# EAGLE library part JOYSTICK (library hal-config)
Joystick HAL Joystick Controller
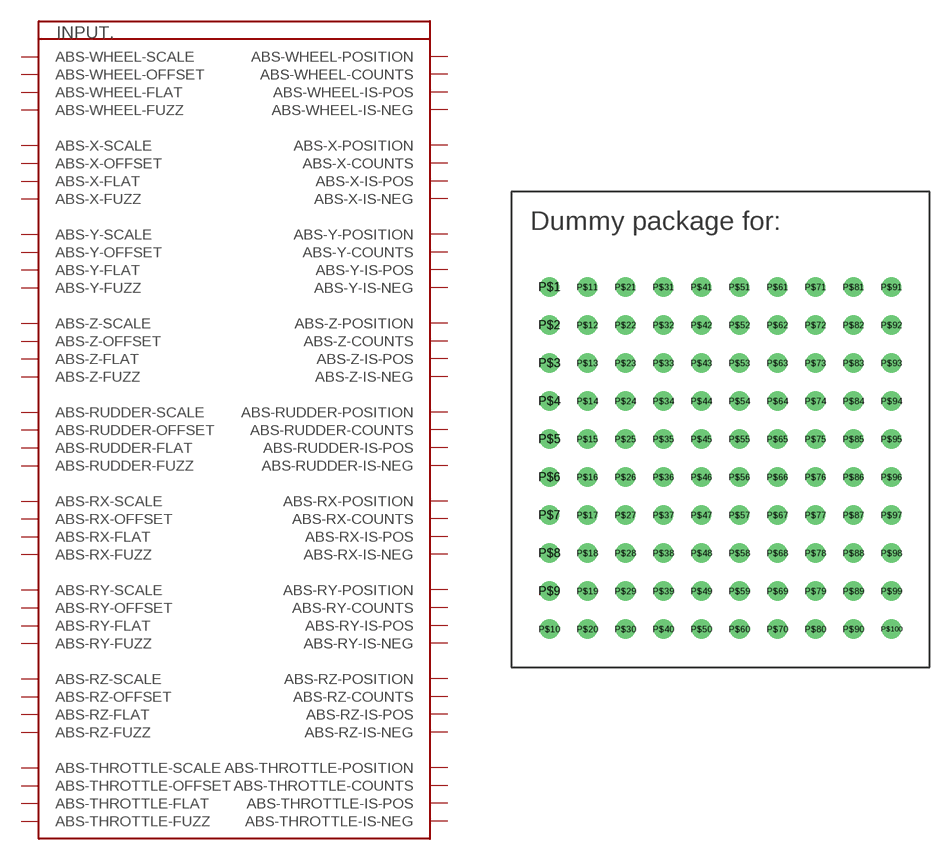
[diagram p26: symbol with the pads of DUMMY; footprint DUMMY]

Designator prefix INPUT.

## JOYSTICK  [DUMMY]
P$1  ABS-RUDDER-COUNTS  out
P$2  ABS-RUDDER-FLAT  in
P$3  ABS-RUDDER-FUZZ  in
P$4  ABS-RUDDER-IS-NEG  out
P$5  ABS-RUDDER-IS-POS  out
P$6  ABS-RUDDER-OFFSET  in
P$7  ABS-RUDDER-POSITION  out
P$8  ABS-RUDDER-SCALE  in
P$9  ABS-RX-COUNTS  out
P$10  ABS-RX-FLAT  in
P$11  ABS-RX-FUZZ  in
P$12  ABS-RX-IS-NEG  out
P$13  ABS-RX-IS-POS  out
P$14  ABS-RX-OFFSET  in
P$15  ABS-RX-POSITION  out
P$16  ABS-RX-SCALE  in
P$17  ABS-RY-COUNTS  out
P$18  ABS-RY-FLAT  in
P$19  ABS-RY-FUZZ  in
P$20  ABS-RY-IS-NEG  out
P$21  ABS-RY-IS-POS  out
P$22  ABS-RY-OFFSET  in
P$23  ABS-RY-POSITION  out
P$24  ABS-RY-SCALE  in
P$25  ABS-RZ-COUNTS  out
P$26  ABS-RZ-FLAT  in
P$27  ABS-RZ-FUZZ  in
P$28  ABS-RZ-IS-NEG  out
P$29  ABS-RZ-IS-POS  out
P$30  ABS-RZ-OFFSET  in
P$31  ABS-RZ-POSITION  out
P$32  ABS-RZ-SCALE  in
P$33  ABS-THROTTLE-COUNTS  out
P$34  ABS-THROTTLE-FLAT  in
P$35  ABS-THROTTLE-FUZZ  in
P$36  ABS-THROTTLE-IS-NEG  out
P$37  ABS-THROTTLE-IS-POS  out
P$38  ABS-THROTTLE-OFFSET  in
P$39  ABS-THROTTLE-POSITION  out
P$40  ABS-THROTTLE-SCALE  in
P$41  ABS-WHEEL-COUNTS  out
P$42  ABS-WHEEL-FLAT  in
P$43  ABS-WHEEL-FUZZ  in
P$44  ABS-WHEEL-IS-NEG  out
P$45  ABS-WHEEL-IS-POS  out
P$46  ABS-WHEEL-OFFSET  in
P$47  ABS-WHEEL-POSITION  out
P$48  ABS-WHEEL-SCALE  in
P$49  ABS-X-COUNTS  out
P$50  ABS-X-FLAT  in
P$51  ABS-X-FUZZ  in
P$52  ABS-X-IS-NEG  out
P$53  ABS-X-IS-POS  out
P$54  ABS-X-OFFSET  in
P$55  ABS-X-POSITION  out
P$56  ABS-X-SCALE  in
P$57  ABS-Y-COUNTS  out
P$58  ABS-Y-FLAT  in
P$59  ABS-Y-FUZZ  in
P$60  ABS-Y-IS-NEG  out
P$61  ABS-Y-IS-POS  out
P$62  ABS-Y-OFFSET  in
P$63  ABS-Y-POSITION  out
P$64  ABS-Y-SCALE  in
P$65  ABS-Z-COUNTS  out
P$66  ABS-Z-FLAT  in
P$67  ABS-Z-FUZZ  in
P$68  ABS-Z-IS-NEG  out
P$69  ABS-Z-IS-POS  out
P$70  ABS-Z-OFFSET  in
P$71  ABS-Z-POSITION  out
P$72  ABS-Z-SCALE  in

## Footprint DUMMY (pad centres in mm)
drill 0.8: P$1 0,-1.27; P$2 0,-3.81; P$3 0,-6.35; P$4 0,-8.89; P$5 0,-11.43; P$6 0,-13.97; P$7 0,-16.51; P$8 0,-19.05; P$9 0,-21.59; P$10 0,-24.13; P$11 2.54,-1.27; P$12 2.54,-3.81; P$13 2.54,-6.35; P$14 2.54,-8.89; P$15 2.54,-11.43; P$16 2.54,-13.97; P$17 2.54,-16.51; P$18 2.54,-19.05; P$19 2.54,-21.59; P$20 2.54,-24.13; P$21 5.08,-1.27; P$22 5.08,-3.81; P$23 5.08,-6.35; P$24 5.08,-8.89; P$25 5.08,-11.43; P$26 5.08,-13.97; P$27 5.08,-16.51; P$28 5.08,-19.05; P$29 5.08,-21.59; P$30 5.08,-24.13; P$31 7.62,-1.27; P$32 7.62,-3.81; P$33 7.62,-6.35; P$34 7.62,-8.89; P$35 7.62,-11.43; P$36 7.62,-13.97; P$37 7.62,-16.51; P$38 7.62,-19.05; P$39 7.62,-21.59; P$40 7.62,-24.13; P$41 10.16,-1.27; P$42 10.16,-3.81; P$43 10.16,-6.35; P$44 10.16,-8.89; P$45 10.16,-11.43; P$46 10.16,-13.97; P$47 10.16,-16.51; P$48 10.16,-19.05; P$49 10.16,-21.59; P$50 10.16,-24.13; P$51 12.7,-1.27; P$52 12.7,-3.81; P$53 12.7,-6.35; P$54 12.7,-8.89; P$55 12.7,-11.43; P$56 12.7,-13.97; P$57 12.7,-16.51; P$58 12.7,-19.05; P$59 12.7,-21.59; P$60 12.7,-24.13; P$61 15.24,-1.27; P$62 15.24,-3.81; P$63 15.24,-6.35; P$64 15.24,-8.89; P$65 15.24,-11.43; P$66 15.24,-13.97; P$67 15.24,-16.51; P$68 15.24,-19.05; P$69 15.24,-21.59; P$70 15.24,-24.13; P$71 17.78,-1.27; P$72 17.78,-3.81; P$73 17.78,-6.35; P$74 17.78,-8.89; P$75 17.78,-11.43; P$76 17.78,-13.97; P$77 17.78,-16.51; P$78 17.78,-19.05; P$79 17.78,-21.59; P$80 17.78,-24.13; P$81 20.32,-1.27; P$82 20.32,-3.81; P$83 20.32,-6.35; P$84 20.32,-8.89; P$85 20.32,-11.43; P$86 20.32,-13.97; P$87 20.32,-16.51; P$88 20.32,-19.05; P$89 20.32,-21.59; P$90 20.32,-24.13; P$91 22.86,-1.27; P$92 22.86,-3.81; P$93 22.86,-6.35; P$94 22.86,-8.89; P$95 22.86,-11.43; P$96 22.86,-13.97; P$97 22.86,-16.51; P$98 22.86,-19.05; P$99 22.86,-21.59; P$100 22.86,-24.13